# Altium schematic symbol library Resistor - Surface Mount - 0201.SchLib: 301 symbols (part 5 of 5)
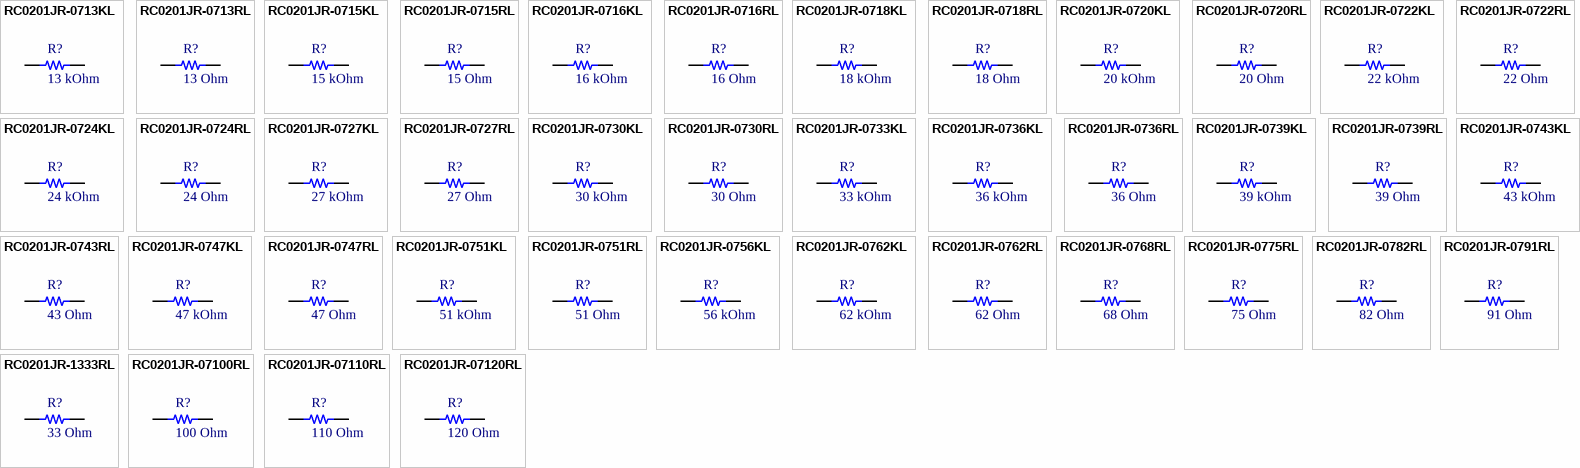
[diagram p11: symbols RC0201JR-0713KL to RC0201JR-07120RL]

## RC0201JR-0762KL
designator R?, comment 62 kOhm
RES 62K OHM 5% 1/20W 0201; Manufacturer: Yageo; Part Number: RC0201JR-0762KL; Power (Watt): 0.05W; ComponentLink1Description: Datasheet; ComponentLink1URL: https://www.yageo.com/upload/media/product/products/datasheet/rchip/PYu-RC_Group_51_RoHS_L_12.pdf; ComponentLink2Description: Digikey link; ComponentLink2URL: https://www.digikey.com/en/products/detail/yageo/RC0201JR-0762KL/5280777; ComponentLink3Description: LCSC link; ComponentLink3URL: https://lcsc.com/product-detail/Chip-Resistor-Surface-Mount_YAGEO-RC0201JR-0762KL_C138092.html?s_z=n_RC0201JR-0762KL; Value: 62 kOhm; Package: 0201 (0603 Metric); Tolerance: ±5%; Operating Temperature: -55°C ~ 125°C; Supplier 1: Digikey; Supplier Part Number 1: YAG2917CT-ND
footprint R0201
pins: 1, 2

## RC0201JR-0762RL
designator R?, comment 62 Ohm
RES 62 OHM 5% 1/20W 0201; Manufacturer: Yageo; Part Number: RC0201JR-0762RL; Power (Watt): 0.05W; ComponentLink1Description: Datasheet; ComponentLink1URL: https://www.yageo.com/upload/media/product/products/datasheet/rchip/PYu-RC_Group_51_RoHS_L_12.pdf; ComponentLink2Description: Digikey link; ComponentLink2URL: https://www.digikey.com/en/products/detail/yageo/RC0201JR-0762RL/5280778; ComponentLink3Description: LCSC link; ComponentLink3URL: https://lcsc.com/product-detail/Chip-Resistor-Surface-Mount_YAGEO-RC0201JR-0762RL_C138091.html?s_z=n_RC0201JR-0762RL; Value: 62 Ohm; Package: 0201 (0603 Metric); Tolerance: ±5%; Operating Temperature: -55°C ~ 125°C; Supplier 1: Digikey; Supplier Part Number 1: YAG2918CT-ND
footprint R0201
pins: 1, 2

## RC0201JR-0768RL
designator R?, comment 68 Ohm
RES 68 OHM 5% 1/20W 0201; Manufacturer: Yageo; Part Number: RC0201JR-0768RL; Power (Watt): 0.05W; ComponentLink1Description: Datasheet; ComponentLink1URL: https://www.yageo.com/upload/media/product/products/datasheet/rchip/PYu-RC_Group_51_RoHS_L_12.pdf; ComponentLink2Description: Digikey link; ComponentLink2URL: https://www.digikey.com/en/products/detail/yageo/RC0201JR-0768RL/3202439; ComponentLink3Description: LCSC link; ComponentLink3URL: https://lcsc.com/product-detail/Chip-Resistor-Surface-Mount_YAGEO-RC0201JR-0768RL_C274358.html?s_z=n_RC0201JR-0768RL; Value: 68 Ohm; Package: 0201 (0603 Metric); Tolerance: ±5%; Operating Temperature: -55°C ~ 125°C; Supplier 1: Future Electronics; Supplier Part Number 1: 1100484
footprint R0201
pins: 1, 2

## RC0201JR-0775RL
designator R?, comment 75 Ohm
RES 75 OHM 5% 1/20W 0201; Manufacturer: Yageo; Part Number: RC0201JR-0775RL; Power (Watt): 0.05W; ComponentLink1Description: Datasheet; ComponentLink1URL: https://www.yageo.com/upload/media/product/products/datasheet/rchip/PYu-RC_Group_51_RoHS_L_12.pdf; ComponentLink2Description: Digikey link; ComponentLink2URL: https://www.digikey.com/en/products/detail/yageo/RC0201JR-0775RL/5280789; ComponentLink3Description: LCSC link; ComponentLink3URL: https://lcsc.com/product-detail/Chip-Resistor-Surface-Mount_YAGEO-RC0201JR-0775RL_C295865.html?s_z=n_RC0201JR-0775RL; Value: 75 Ohm; Package: 0201 (0603 Metric); Tolerance: ±5%; Operating Temperature: -55°C ~ 125°C; Supplier 1: Digikey; Supplier Part Number 1: YAG2929CT-ND
footprint R0201
pins: 1, 2

## RC0201JR-0782RL
designator R?, comment 82 Ohm
RES 82 OHM 5% 1/20W 0201; Manufacturer: Yageo; Part Number: RC0201JR-0782RL; Power (Watt): 0.05W; ComponentLink1Description: Datasheet; ComponentLink1URL: https://www.yageo.com/upload/media/product/products/datasheet/rchip/PYu-RC_Group_51_RoHS_L_12.pdf; ComponentLink2Description: Digikey link; ComponentLink2URL: https://www.digikey.com/en/products/detail/yageo/RC0201JR-0782RL/3202440; ComponentLink3Description: LCSC link; ComponentLink3URL: https://lcsc.com/product-detail/Chip-Resistor-Surface-Mount_YAGEO-RC0201JR-0782RL_C138084.html?s_z=n_RC0201JR-0782RL; Value: 82 Ohm; Package: 0201 (0603 Metric); Tolerance: ±5%; Operating Temperature: -55°C ~ 125°C; Supplier 1: Digikey; Supplier Part Number 1: YAG2365CT-ND
footprint R0201
pins: 1, 2

## RC0201JR-0791RL
designator R?, comment 91 Ohm
RES 91 OHM 5% 1/20W 0201; Manufacturer: Yageo; Part Number: RC0201JR-0791RL; Power (Watt): 0.05W; ComponentLink1Description: Datasheet; ComponentLink1URL: https://www.yageo.com/upload/media/product/products/datasheet/rchip/PYu-RC_Group_51_RoHS_L_12.pdf; ComponentLink2Description: Digikey link; ComponentLink2URL: https://www.digikey.com/en/products/detail/yageo/RC0201JR-0791RL/5280800; ComponentLink3Description: LCSC link; ComponentLink3URL: https://lcsc.com/product-detail/Chip-Resistor-Surface-Mount_YAGEO-RC0201JR-0791RL_C295870.html?s_z=n_RC0201JR-0791RL; Value: 91 Ohm; Package: 0201 (0603 Metric); Tolerance: ±5%; Operating Temperature: -55°C ~ 125°C; Supplier 1: Digikey; Supplier Part Number 1: YAG2940CT-ND
footprint R0201
pins: 1, 2

## RC0201JR-1333RL
designator R?, comment 33 Ohm
RES 33 OHM 5% 1/20W 0201; Manufacturer: Yageo; Part Number: RC0201JR-1333RL; Power (Watt): 0.05W; ComponentLink1Description: Datasheet; ComponentLink1URL: https://www.yageo.com/upload/media/product/products/datasheet/rchip/PYu-RC_Group_51_RoHS_L_12.pdf; ComponentLink2Description: Digikey link; ComponentLink2URL: https://www.digikey.com/en/products/detail/yageo/RC0201JR-1333RL/17016985; ComponentLink3Description: LCSC link; ComponentLink3URL: *; Value: 33 Ohm; Package: 0201 (0603 Metric); Tolerance: ±5%; Operating Temperature: -55°C ~ 125°C; Supplier 1: Digikey; Supplier Part Number 1: 13-RC0201JR-1333RLCT-ND
footprint R0201
pins: 1, 2

## RC0201JR-07100RL
designator R?, comment 100 Ohm
RES 100 OHM 5% 1/20W 0201; Manufacturer: Yageo; Part Number: RC0201JR-07100RL; Power (Watt): 0.05W; ComponentLink1Description: Datasheet; ComponentLink1URL: https://www.yageo.com/upload/media/product/products/datasheet/rchip/PYu-RC_Group_51_RoHS_L_12.pdf; ComponentLink2Description: Digikey link; ComponentLink2URL: https://www.digikey.com/en/products/detail/yageo/RC0201JR-07100RL/1948900; ComponentLink3Description: LCSC link; ComponentLink3URL: https://lcsc.com/product-detail/Chip-Resistor-Surface-Mount_YAGEO-RC0201JR-07100RL_C106229.html?s_z=n_RC0201JR-07100RL; Value: 100 Ohm; Package: 0201 (0603 Metric); Tolerance: ±5%; Operating Temperature: -55°C ~ 125°C; Supplier 1: Future Electronics; Supplier Part Number 1: 1104108
footprint R0201
pins: 1, 2

## RC0201JR-07110RL
designator R?, comment 110 Ohm
RES 110 OHM 5% 1/20W 0201; Manufacturer: Yageo; Part Number: RC0201JR-07110RL; Power (Watt): 0.05W; ComponentLink1Description: Datasheet; ComponentLink1URL: https://www.yageo.com/upload/media/product/products/datasheet/rchip/PYu-RC_Group_51_RoHS_L_12.pdf; ComponentLink2Description: Digikey link; ComponentLink2URL: https://www.digikey.com/en/products/detail/yageo/RC0201JR-07110RL/1948904; ComponentLink3Description: LCSC link; ComponentLink3URL: https://lcsc.com/product-detail/Chip-Resistor-Surface-Mount_YAGEO-RC0201JR-07110RL_C295824.html?s_z=n_RC0201JR-07110RL; Value: 110 Ohm; Package: 0201 (0603 Metric); Tolerance: ±5%; Operating Temperature: -55°C ~ 125°C; Supplier 1: Mouser; Supplier Part Number 1: 603-RC0201JR-07110RL
footprint R0201
pins: 1, 2

## RC0201JR-07120RL
designator R?, comment 120 Ohm
RES 120 OHM 5% 1/20W 0201; Manufacturer: Yageo; Part Number: RC0201JR-07120RL; Power (Watt): 0.05W; ComponentLink1Description: Datasheet; ComponentLink1URL: https://www.yageo.com/upload/media/product/products/datasheet/rchip/PYu-RC_Group_51_RoHS_L_12.pdf; ComponentLink2Description: Digikey link; ComponentLink2URL: https://www.digikey.com/en/products/detail/yageo/RC0201JR-07120RL/1948908; ComponentLink3Description: LCSC link; ComponentLink3URL: https://lcsc.com/product-detail/Chip-Resistor-Surface-Mount_YAGEO-RC0201JR-07120RL_C127595.html?s_z=n_RC0201JR-07120RL; Value: 120 Ohm; Package: 0201 (0603 Metric); Tolerance: ±5%; Operating Temperature: -55°C ~ 125°C; Supplier 1: Digikey; Supplier Part Number 1: 311-120NCT-ND
footprint R0201
pins: 1, 2

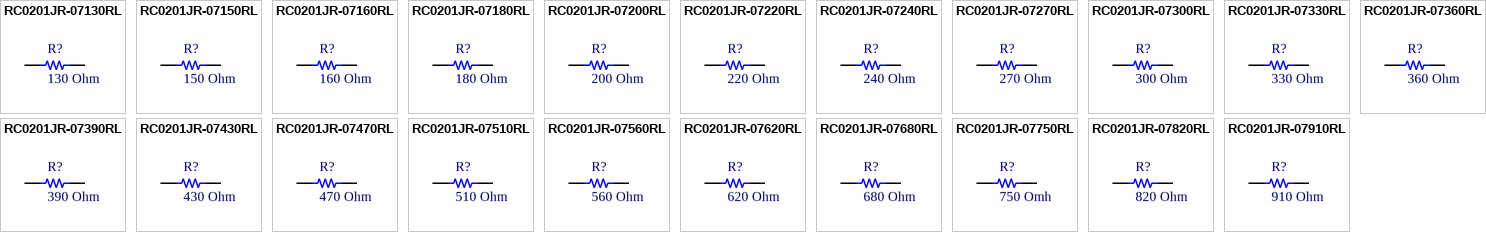
[diagram p7: symbols RC0201JR-07130RL to RC0201JR-07910RL]

## RC0201JR-07130RL
designator R?, comment 130 Ohm
RES 130 OHM 5% 1/20W 0201; Manufacturer: Yageo; Part Number: RC0201JR-07130RL; Power (Watt): 0.05W; ComponentLink1Description: Datasheet; ComponentLink1URL: https://www.yageo.com/upload/media/product/products/datasheet/rchip/PYu-RC_Group_51_RoHS_L_12.pdf; ComponentLink2Description: Digikey link; ComponentLink2URL: https://www.digikey.com/en/products/detail/yageo/RC0201JR-07130RL/3202426; ComponentLink3Description: LCSC link; ComponentLink3URL: https://lcsc.com/product-detail/Chip-Resistor-Surface-Mount_YAGEO-RC0201JR-07130RL_C295829.html?s_z=n_RC0201JR-07130RL; Value: 130 Ohm; Package: 0201 (0603 Metric); Tolerance: ±5%; Operating Temperature: -55°C ~ 125°C; Supplier 1: Digikey; Supplier Part Number 1: YAG2354CT-ND
footprint R0201
pins: 1, 2

## RC0201JR-07150RL
designator R?, comment 150 Ohm
RES 150 OHM 5% 1/20W 0201; Manufacturer: Yageo; Part Number: RC0201JR-07150RL; Power (Watt): 0.05W; ComponentLink1Description: Datasheet; ComponentLink1URL: https://www.yageo.com/upload/media/product/products/datasheet/rchip/PYu-RC_Group_51_RoHS_L_12.pdf; ComponentLink2Description: Digikey link; ComponentLink2URL: https://www.digikey.com/en/products/detail/yageo/RC0201JR-07150RL/1948911; ComponentLink3Description: LCSC link; ComponentLink3URL: https://lcsc.com/product-detail/Chip-Resistor-Surface-Mount_YAGEO-RC0201JR-07150RL_C274881.html?s_z=n_RC0201JR-07150RL; Value: 150 Ohm; Package: 0201 (0603 Metric); Tolerance: ±5%; Operating Temperature: -55°C ~ 125°C; Supplier 1: Future Electronics; Supplier Part Number 1: 1086907
footprint R0201
pins: 1, 2

## RC0201JR-07160RL
designator R?, comment 160 Ohm
RES 160 OHM 5% 1/20W 0201; Manufacturer: Yageo; Part Number: RC0201JR-07160RL; Power (Watt): 0.05W; ComponentLink1Description: Datasheet; ComponentLink1URL: https://www.yageo.com/upload/media/product/products/datasheet/rchip/PYu-RC_Group_51_RoHS_L_12.pdf; ComponentLink2Description: Digikey link; ComponentLink2URL: https://www.digikey.com/en/products/detail/yageo/RC0201JR-07160RL/1948913; ComponentLink3Description: LCSC link; ComponentLink3URL: https://lcsc.com/product-detail/Chip-Resistor-Surface-Mount_YAGEO-RC0201JR-07160RL_C295834.html?s_z=n_RC0201JR-07160RL; Value: 160 Ohm; Package: 0201 (0603 Metric); Tolerance: ±5%; Operating Temperature: -55°C ~ 125°C; Supplier 1: Digikey; Supplier Part Number 1: 311-160NCT-ND
footprint R0201
pins: 1, 2

## RC0201JR-07180RL
designator R?, comment 180 Ohm
RES 180 OHM 5% 1/20W 0201; Manufacturer: Yageo; Part Number: RC0201JR-07180RL; Power (Watt): 0.05W; ComponentLink1Description: Datasheet; ComponentLink1URL: https://www.yageo.com/upload/media/product/products/datasheet/rchip/PYu-RC_Group_51_RoHS_L_12.pdf; ComponentLink2Description: Digikey link; ComponentLink2URL: https://www.digikey.com/en/products/detail/yageo/RC0201JR-07180RL/1948914; ComponentLink3Description: LCSC link; ComponentLink3URL: https://lcsc.com/product-detail/Chip-Resistor-Surface-Mount_YAGEO-RC0201JR-07180RL_C295838.html?s_z=n_RC0201JR-07180RL; Value: 180 Ohm; Package: 0201 (0603 Metric); Tolerance: ±5%; Operating Temperature: -55°C ~ 125°C; Supplier 1: Future Electronics; Supplier Part Number 1: 1087558
footprint R0201
pins: 1, 2

## RC0201JR-07200RL
designator R?, comment 200 Ohm
RES 200 OHM 5% 1/20W 0201; Manufacturer: Yageo; Part Number: RC0201JR-07200RL; Power (Watt): 0.05W; ComponentLink1Description: Datasheet; ComponentLink1URL: https://www.yageo.com/upload/media/product/products/datasheet/rchip/PYu-RC_Group_51_RoHS_L_12.pdf; ComponentLink2Description: Digikey link; ComponentLink2URL: https://www.digikey.com/en/products/detail/yageo/RC0201JR-07200RL/1948925; ComponentLink3Description: LCSC link; ComponentLink3URL: https://lcsc.com/product-detail/Chip-Resistor-Surface-Mount_YAGEO-RC0201JR-07200RL_C273269.html?s_z=n_RC0201JR-07200RL; Value: 200 Ohm; Package: 0201 (0603 Metric); Tolerance: ±5%; Operating Temperature: -55°C ~ 125°C; Supplier 1: Digikey; Supplier Part Number 1: 311-200NCT-ND
footprint R0201
pins: 1, 2

## RC0201JR-07220RL
designator R?, comment 220 Ohm
RES 220 OHM 5% 1/20W 0201; Manufacturer: Yageo; Part Number: RC0201JR-07220RL; Power (Watt): 0.05W; ComponentLink1Description: Datasheet; ComponentLink1URL: https://www.yageo.com/upload/media/product/products/datasheet/rchip/PYu-RC_Group_51_RoHS_L_12.pdf; ComponentLink2Description: Digikey link; ComponentLink2URL: https://www.digikey.com/en/products/detail/yageo/RC0201JR-07220RL/1948929; ComponentLink3Description: LCSC link; ComponentLink3URL: https://lcsc.com/product-detail/Chip-Resistor-Surface-Mount_YAGEO-RC0201JR-07220RL_C138112.html?s_z=n_RC0201JR-07220RL; Value: 220 Ohm; Package: 0201 (0603 Metric); Tolerance: ±5%; Operating Temperature: -55°C ~ 125°C; Supplier 1: Digikey; Supplier Part Number 1: 311-220NCT-ND
footprint R0201
pins: 1, 2

## RC0201JR-07240RL
designator R?, comment 240 Ohm
RES 240 OHM 5% 1/20W 0201; Manufacturer: Yageo; Part Number: RC0201JR-07240RL; Power (Watt): 0.05W; ComponentLink1Description: Datasheet; ComponentLink1URL: https://www.yageo.com/upload/media/product/products/datasheet/rchip/PYu-RC_Group_51_RoHS_L_12.pdf; ComponentLink2Description: Digikey link; ComponentLink2URL: https://www.digikey.com/en/products/detail/yageo/RC0201JR-07240RL/1948933; ComponentLink3Description: LCSC link; ComponentLink3URL: https://lcsc.com/product-detail/Chip-Resistor-Surface-Mount_YAGEO-RC0201JR-07240RL_C163494.html?s_z=n_RC0201JR-07240RL; Value: 240 Ohm; Package: 0201 (0603 Metric); Tolerance: ±5%; Operating Temperature: -55°C ~ 125°C; Supplier 1: Future Electronics; Supplier Part Number 1: 7202369
footprint R0201
pins: 1, 2

## RC0201JR-07270RL
designator R?, comment 270 Ohm
RES 270 OHM 5% 1/20W 0201; Manufacturer: Yageo; Part Number: RC0201JR-07270RL; Power (Watt): 0.05W; ComponentLink1Description: Datasheet; ComponentLink1URL: https://www.yageo.com/upload/media/product/products/datasheet/rchip/PYu-RC_Group_51_RoHS_L_12.pdf; ComponentLink2Description: Digikey link; ComponentLink2URL: https://www.digikey.com/en/products/detail/yageo/RC0201JR-07270RL/1948936; ComponentLink3Description: LCSC link; ComponentLink3URL: https://lcsc.com/product-detail/Chip-Resistor-Surface-Mount_YAGEO-RC0201JR-07270RL_C138110.html?s_z=n_RC0201JR-07270RL; Value: 270 Ohm; Package: 0201 (0603 Metric); Tolerance: ±5%; Operating Temperature: -55°C ~ 125°C; Supplier 1: Digikey; Supplier Part Number 1: 311-270NCT-ND
footprint R0201
pins: 1, 2

## RC0201JR-07300RL
designator R?, comment 300 Ohm
RES 300 OHM 5% 1/20W 0201; Manufacturer: Yageo; Part Number: RC0201JR-07300RL; Power (Watt): 0.05W; ComponentLink1Description: Datasheet; ComponentLink1URL: https://www.yageo.com/upload/media/product/products/datasheet/rchip/PYu-RC_Group_51_RoHS_L_12.pdf; ComponentLink2Description: Digikey link; ComponentLink2URL: https://www.digikey.com/en/products/detail/yageo/RC0201JR-07300RL/1948941; ComponentLink3Description: LCSC link; ComponentLink3URL: https://lcsc.com/product-detail/Chip-Resistor-Surface-Mount_YAGEO-RC0201JR-07300RL_C274883.html?s_z=n_RC0201JR-07300RL; Value: 300 Ohm; Package: 0201 (0603 Metric); Tolerance: ±5%; Operating Temperature: -55°C ~ 125°C; Supplier 1: Future Electronics; Supplier Part Number 1: 6546113
footprint R0201
pins: 1, 2

## RC0201JR-07330RL
designator R?, comment 330 Ohm
RES 330 OHM 5% 1/20W 0201; Manufacturer: Yageo; Part Number: RC0201JR-07330RL; Power (Watt): 0.05W; ComponentLink1Description: Datasheet; ComponentLink1URL: https://www.yageo.com/upload/media/product/products/datasheet/rchip/PYu-RC_Group_51_RoHS_L_12.pdf; ComponentLink2Description: Digikey link; ComponentLink2URL: https://www.digikey.com/en/products/detail/yageo/RC0201JR-07330RL/1948945; ComponentLink3Description: LCSC link; ComponentLink3URL: https://lcsc.com/product-detail/Chip-Resistor-Surface-Mount_YAGEO-RC0201JR-07330RL_C138104.html?s_z=n_RC0201JR-07330RL; Value: 330 Ohm; Package: 0201 (0603 Metric); Tolerance: ±5%; Operating Temperature: -55°C ~ 125°C; Supplier 1: Future Electronics; Supplier Part Number 1: 7233869
footprint R0201
pins: 1, 2

## RC0201JR-07360RL
designator R?, comment 360 Ohm
RES 360 OHM 5% 1/20W 0201; Manufacturer: Yageo; Part Number: RC0201JR-07360RL; Power (Watt): 0.05W; ComponentLink1Description: Datasheet; ComponentLink1URL: https://www.yageo.com/upload/media/product/products/datasheet/rchip/PYu-RC_Group_51_RoHS_L_12.pdf; ComponentLink2Description: Digikey link; ComponentLink2URL: https://www.digikey.com/en/products/detail/yageo/RC0201JR-07360RL/3202433; ComponentLink3Description: LCSC link; ComponentLink3URL: https://lcsc.com/product-detail/Chip-Resistor-Surface-Mount_YAGEO-RC0201JR-07360RL_C295848.html?s_z=n_RC0201JR-07360RL; Value: 360 Ohm; Package: 0201 (0603 Metric); Tolerance: ±5%; Operating Temperature: -55°C ~ 125°C; Supplier 1: Future Electronics; Supplier Part Number 1: 1093556
footprint R0201
pins: 1, 2

## RC0201JR-07390RL
designator R?, comment 390 Ohm
RES 390 OHM 5% 1/20W 0201; Manufacturer: Yageo; Part Number: RC0201JR-07390RL; Power (Watt): 0.05W; ComponentLink1Description: Datasheet; ComponentLink1URL: https://www.yageo.com/upload/media/product/products/datasheet/rchip/PYu-RC_Group_51_RoHS_L_12.pdf; ComponentLink2Description: Digikey link; ComponentLink2URL: https://www.digikey.com/en/products/detail/yageo/RC0201JR-07390RL/1948948; ComponentLink3Description: LCSC link; ComponentLink3URL: https://lcsc.com/product-detail/Chip-Resistor-Surface-Mount_YAGEO-RC0201JR-07390RL_C295850.html?s_z=n_RC0201JR-07390RL; Value: 390 Ohm; Package: 0201 (0603 Metric); Tolerance: ±5%; Operating Temperature: -55°C ~ 125°C; Supplier 1: Digikey; Supplier Part Number 1: 311-390NCT-ND
footprint R0201
pins: 1, 2

## RC0201JR-07430RL
designator R?, comment 430 Ohm
RES 430 OHM 5% 1/20W 0201; Manufacturer: Yageo; Part Number: RC0201JR-07430RL; Power (Watt): 0.05W; ComponentLink1Description: Datasheet; ComponentLink1URL: https://www.yageo.com/upload/media/product/products/datasheet/rchip/PYu-RC_Group_51_RoHS_L_12.pdf; ComponentLink2Description: Digikey link; ComponentLink2URL: https://www.digikey.com/en/products/detail/yageo/RC0201JR-07430RL/5280760; ComponentLink3Description: LCSC link; ComponentLink3URL: https://lcsc.com/product-detail/Chip-Resistor-Surface-Mount_YAGEO-RC0201JR-07430RL_C295853.html?s_z=n_RC0201JR-07430RL; Value: 430 Ohm; Package: 0201 (0603 Metric); Tolerance: ±5%; Operating Temperature: -55°C ~ 125°C; Supplier 1: Digikey; Supplier Part Number 1: YAG2900CT-ND
footprint R0201
pins: 1, 2

## RC0201JR-07470RL
designator R?, comment 470 Ohm
RES 470 OHM 5% 1/20W 0201; Manufacturer: Yageo; Part Number: RC0201JR-07470RL; Power (Watt): 0.05W; ComponentLink1Description: Datasheet; ComponentLink1URL: https://www.yageo.com/upload/media/product/products/datasheet/rchip/PYu-RC_Group_51_RoHS_L_12.pdf; ComponentLink2Description: Digikey link; ComponentLink2URL: https://www.digikey.com/en/products/detail/yageo/RC0201JR-07470RL/1948953; ComponentLink3Description: LCSC link; ComponentLink3URL: https://lcsc.com/product-detail/Chip-Resistor-Surface-Mount_YAGEO-RC0201JR-07470RL_C163491.html?s_z=n_RC0201JR-07470RL; Value: 470 Ohm; Package: 0201 (0603 Metric); Tolerance: ±5%; Operating Temperature: -55°C ~ 125°C; Supplier 1: Digikey; Supplier Part Number 1: 311-470NCT-ND
footprint R0201
pins: 1, 2

## RC0201JR-07510RL
designator R?, comment 510 Ohm
RES 510 OHM 5% 1/20W 0201; Manufacturer: Yageo; Part Number: RC0201JR-07510RL; Power (Watt): 0.05W; ComponentLink1Description: Datasheet; ComponentLink1URL: https://www.yageo.com/upload/media/product/products/datasheet/rchip/PYu-RC_Group_51_RoHS_L_12.pdf; ComponentLink2Description: Digikey link; ComponentLink2URL: https://www.digikey.com/en/products/detail/yageo/RC0201JR-07510RL/5280767; ComponentLink3Description: LCSC link; ComponentLink3URL: https://lcsc.com/product-detail/Chip-Resistor-Surface-Mount_YAGEO-RC0201JR-07510RL_C295857.html?s_z=n_RC0201JR-07510RL; Value: 510 Ohm; Package: 0201 (0603 Metric); Tolerance: ±5%; Operating Temperature: -55°C ~ 125°C; Supplier 1: Digikey; Supplier Part Number 1: YAG2907CT-ND
footprint R0201
pins: 1, 2

## RC0201JR-07560RL
designator R?, comment 560 Ohm
RES 560 OHM 5% 1/20W 0201; Manufacturer: Yageo; Part Number: RC0201JR-07560RL; Power (Watt): 0.05W; ComponentLink1Description: Datasheet; ComponentLink1URL: https://www.yageo.com/upload/media/product/products/datasheet/rchip/PYu-RC_Group_51_RoHS_L_12.pdf; ComponentLink2Description: Digikey link; ComponentLink2URL: https://www.digikey.com/en/products/detail/yageo/RC0201JR-07560RL/1948960; ComponentLink3Description: LCSC link; ComponentLink3URL: https://lcsc.com/product-detail/Chip-Resistor-Surface-Mount_YAGEO-RC0201JR-07560RL_C274340.html?s_z=n_RC0201JR-07560RL; Value: 560 Ohm; Package: 0201 (0603 Metric); Tolerance: ±5%; Operating Temperature: -55°C ~ 125°C; Supplier 1: Future Electronics; Supplier Part Number 1: 5142113
footprint R0201
pins: 1, 2

## RC0201JR-07620RL
designator R?, comment 620 Ohm
RES 620 OHM 5% 1/20W 0201; Manufacturer: Yageo; Part Number: RC0201JR-07620RL; Power (Watt): 0.05W; ComponentLink1Description: Datasheet; ComponentLink1URL: https://www.yageo.com/upload/media/product/products/datasheet/rchip/PYu-RC_Group_51_RoHS_L_12.pdf; ComponentLink2Description: Digikey link; ComponentLink2URL: https://www.digikey.com/en/products/detail/yageo/RC0201JR-07620RL/5280776; ComponentLink3Description: LCSC link; ComponentLink3URL: https://lcsc.com/product-detail/Chip-Resistor-Surface-Mount_YAGEO-RC0201JR-07620RL_C138093.html?s_z=n_RC0201JR-07620RL; Value: 620 Ohm; Package: 0201 (0603 Metric); Tolerance: ±5%; Operating Temperature: -55°C ~ 125°C; Supplier 1: Mouser; Supplier Part Number 1: 603-RC0201JR-07620RL
footprint R0201
pins: 1, 2

## RC0201JR-07680RL
designator R?, comment 680 Ohm
RES 680 OHM 5% 1/20W 0201; Manufacturer: Yageo; Part Number: RC0201JR-07680RL; Power (Watt): 0.05W; ComponentLink1Description: Datasheet; ComponentLink1URL: https://www.yageo.com/upload/media/product/products/datasheet/rchip/PYu-RC_Group_51_RoHS_L_12.pdf; ComponentLink2Description: Digikey link; ComponentLink2URL: https://www.digikey.com/en/products/detail/yageo/RC0201JR-07680RL/1948962; ComponentLink3Description: LCSC link; ComponentLink3URL: https://lcsc.com/product-detail/Chip-Resistor-Surface-Mount_YAGEO-RC0201JR-07680RL_C138089.html?s_z=n_RC0201JR-07680RL; Value: 680 Ohm; Package: 0201 (0603 Metric); Tolerance: ±5%; Operating Temperature: -55°C ~ 125°C; Supplier 1: Future Electronics; Supplier Part Number 1: 1098613
footprint R0201
pins: 1, 2

## RC0201JR-07750RL
designator R?, comment 750 Omh
RES 750 OHM 5% 1/20W 0201; Manufacturer: Yageo; Part Number: RC0201JR-07750RL; Power (Watt): 0.05W; ComponentLink1Description: Datasheet; ComponentLink1URL: https://www.yageo.com/upload/media/product/products/datasheet/rchip/PYu-RC_Group_51_RoHS_L_12.pdf; ComponentLink2Description: Digikey link; ComponentLink2URL: https://www.digikey.com/en/products/detail/yageo/RC0201JR-07750RL/5280787; ComponentLink3Description: LCSC link; ComponentLink3URL: https://lcsc.com/product-detail/Chip-Resistor-Surface-Mount_YAGEO-RC0201JR-07750RL_C295864.html?s_z=n_RC0201JR-07750RL; Value: 750 Omh; Package: 0201 (0603 Metric); Tolerance: ±5%; Operating Temperature: -55°C ~ 125°C; Supplier 1: Digikey; Supplier Part Number 1: YAG2927CT-ND
footprint R0201
pins: 1, 2

## RC0201JR-07820RL
designator R?, comment 820 Ohm
RES 820 OHM 5% 1/20W 0201; Manufacturer: Yageo; Part Number: RC0201JR-07820RL; Power (Watt): 0.05W; ComponentLink1Description: Datasheet; ComponentLink1URL: https://www.yageo.com/upload/media/product/products/datasheet/rchip/PYu-RC_Group_51_RoHS_L_12.pdf; ComponentLink2Description: Digikey link; ComponentLink2URL: https://www.digikey.com/en/products/detail/yageo/RC0201JR-07820RL/5280794; ComponentLink3Description: LCSC link; ComponentLink3URL: https://lcsc.com/product-detail/Chip-Resistor-Surface-Mount_YAGEO-RC0201JR-07820RL_C138085.html?s_z=n_RC0201JR-07820RL; Value: 820 Ohm; Package: 0201 (0603 Metric); Tolerance: ±5%; Operating Temperature: -55°C ~ 125°C; Supplier 1: Digikey; Supplier Part Number 1: YAG2934CT-ND
footprint R0201
pins: 1, 2

## RC0201JR-07910RL
designator R?, comment 910 Ohm
RES 910 OHM 5% 1/20W 0201; Manufacturer: Yageo; Part Number: RC0201JR-07910RL; Power (Watt): 0.05W; ComponentLink1Description: Datasheet; ComponentLink1URL: https://www.yageo.com/upload/media/product/products/datasheet/rchip/PYu-RC_Group_51_RoHS_L_12.pdf; ComponentLink2Description: Digikey link; ComponentLink2URL: https://www.digikey.com/en/products/detail/yageo/RC0201JR-07910RL/3202442; ComponentLink3Description: LCSC link; ComponentLink3URL: https://lcsc.com/product-detail/Chip-Resistor-Surface-Mount_YAGEO-RC0201JR-07910RL_C295869.html?s_z=n_RC0201JR-07910RL; Value: 910 Ohm; Package: 0201 (0603 Metric); Tolerance: ±5%; Operating Temperature: -55°C ~ 125°C; Supplier 1: Digikey; Supplier Part Number 1: YAG2367CT-ND
footprint R0201
pins: 1, 2